# Altium schematic symbol library IR_Communication_Schematic_Lib.SchLib: 16 symbols
Pins are listed as number, name and electrical type; pins without a type are passive.

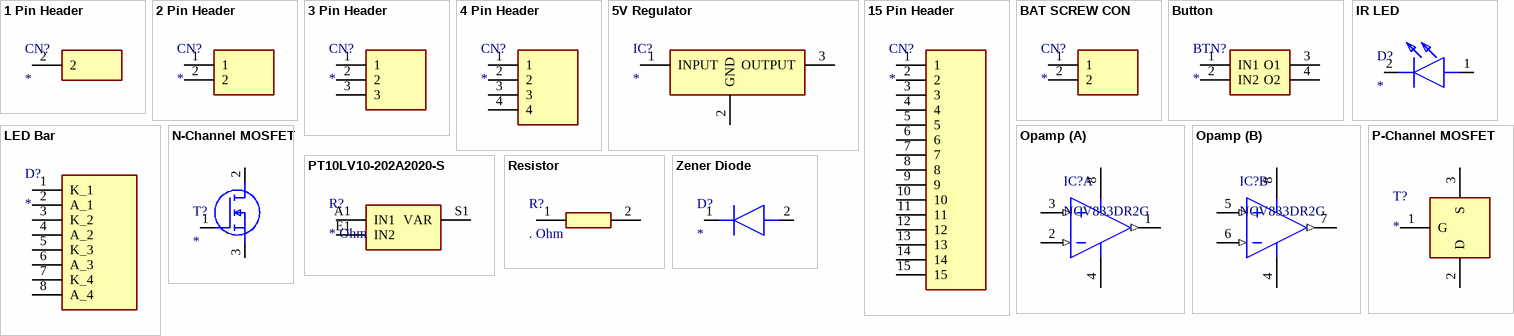
[diagram p0: symbols 1 Pin Header to Zener Diode]

## 1 Pin Header
designator CN?
Connector; Manufacturer_Name: TE Connectivity; Manufacturer_Part_Number: 5-146281-1; Datasheet Link: https://www.mouser.com/datasheet/2/418/NG_CD_146281_G1-1238634.pdf; Height: 8.81mm; Mouser Part Number: 571-5-146281-1; Mouser Price/Stock: https://www.mouser.co.uk/ProductDetail/TE-Connectivity/5-146281-1?qs=bwpFY26eRVdQbbdvDiYEig%3D%3D; Arrow Part Number: 5-146281-1; Arrow Price/Stock: https://www.arrow.com/en/products/5-146281-1/te-connectivity
footprint 1 PIN HEADER
pins: 2

## 2 Pin Header
designator CN?
Connector; Manufacturer_Name: TE Connectivity; Manufacturer_Part_Number: 5-146284-2; Datasheet Link: https://componentsearchengine.com/Datasheets/1/5-146284-2.pdf; Height: 8.21mm; Mouser Part Number: 571-5-146284-2; Mouser Price/Stock: https://www.mouser.co.uk/ProductDetail/TE-Connectivity/5-146284-2?qs=26tC0AmtfJgTF4M3cEQgiA%3D%3D; Arrow Part Number: 5-146284-2; Arrow Price/Stock: https://www.arrow.com/en/products/5-146284-2/te-connectivity
footprint 2 Pin Header
pins: 1, 2

## 3 Pin Header
designator CN?
TSW-103-07-G-S; Manufacturer_Name: SAMTEC; Datasheet Link: http://suddendocs.samtec.com/prints/tsw-xxx-xx-xxx-x-xx-xxx-mkt.pdf; Manufacturer_Part_Number: TSW-103-07-G-S; Mouser Part Number: 200-TSW10307GS; Mouser Price/Stock: https://www.mouser.co.uk/ProductDetail/Samtec/TSW-103-07-G-S?qs=iT52DjcXudtntd1jApTIAw%3D%3D; Arrow Part Number: TSW-103-07-G-S; Arrow Price/Stock: https://www.arrow.com/en/products/tsw-103-07-g-s/samtec?region=europe
footprint 3 Pin Header (TSW-103-XX-YY-S)
pins: 1, 2, 3

## 4 Pin Header
designator CN?
G800LW304032EU; Manufacturer_Name: Amphenol Communications Solutions; Datasheet Link: https://cdn.amphenol-cs.com/media/wysiwyg/files/drawing/g800lwxxxxxxeu.pdf; Height: 8.63mm; Manufacturer_Part_Number: G800LW304032EU; Mouser Part Number: 523-G800LW304032EU; Mouser Price/Stock: https://www.mouser.com/Search/Refine.aspx?Keyword=523-G800LW304032EU
footprint 4 PIN HEADER (HDRV4W64P0X254_1X4_1016X250X863P)
pins: 1, 2, 3, 4

## 5V Regulator
designator IC?
MC7805BDTG; Manufacturer_Name: onsemi; Datasheet Link: https://www.onsemi.com/pub/Collateral/MC7800-D.PDF; Height: 2.38mm; Manufacturer_Part_Number: MC7805BDTG; Mouser Part Number: 863-MC7805BDTG; Mouser Price/Stock: https://www.mouser.co.uk/ProductDetail/onsemi/MC7805BDTG?qs=%252B9%2Fcbd0IE0TYE8BQQ8My5g%3D%3D; Arrow Part Number: MC7805BDTG; Arrow Price/Stock: https://www.arrow.com/en/products/mc7805bdtg/on-semiconductor?region=europe
footprint 5V Regulator (MC7805BDTG)
pins: 1 INPUT, 2 GND, 3 OUTPUT

## 15 Pin Header
designator CN?
15 Pin Header Connector; Manufacturer_Name: SparkFun; Manufacturer_Part_Number: PRT-16279; Datasheet Link: https://cdn.sparkfun.com/assets/8/d/8/4/7/DS-16279-Arduino_Nano_Stackable_Header_Kit.pdf; Height: 8.65mm; Mouser Part Number: 474-PRT-16279; Mouser Price/Stock: https://www.mouser.co.uk/ProductDetail/SparkFun/PRT-16279?qs=vmHwEFxEFR8I6W1vfufYPg%3D%3D; Arrow Part Number: PRT-16279; Arrow Price/Stock: https://www.arrow.com/en/products/prt-16279/sparkfun-electronics?region=nac
footprint 15 Pin Header
pins: 1, 2, 3, 4, 5, 6, 7, 8, 9, 10, 11, 12, 13, 14, 15

## BAT SCREW CON
designator CN?
Connector; Manufacturer_Name: CUI Devices; Manufacturer_Part_Number: TB006-508-02BE; Datasheet Link: https://datasheet.datasheetarchive.com/originals/distributors/Datasheets_SAMA/b266c411a02422edb513b788238f8420.pdf; Height: 10.4mm; Mouser Part Number: 490-TB006-508-02BE; Mouser Price/Stock: https://www.mouser.co.uk/ProductDetail/CUI-Devices/TB006-508-02BE?qs=vLWxofP3U2wEdOVV%2FaT04w%3D%3D; Arrow Part Number: TB006-508-02BE; Arrow Price/Stock: https://www.arrow.com/en/products/tb006-508-02be/cui-devices?region=nac
footprint BAT SCREW CON
pins: 1, 2

## Button
designator BTN?
TS02-66-50-BK-100-SCR-D; Manufacturer_Name: CUI Devices; Description: Tactile Switches 6 x 6 mm; Datasheet Link: https://www.cuidevices.com/product/resource/ts02.pdf; Height: 5.2mm; Manufacturer_Part_Number: TS02-66-50-BK-100-SCR-D; Mouser Part Number: 179-TS026650BK100SCR; Mouser Price/Stock: https://www.mouser.co.uk/ProductDetail/CUI-Devices/TS02-66-50-BK-100-SCR-D?qs=A6eO%252BMLsxmQON%252BZSzpek2A%3D%3D; Arrow Part Number: TS02-66-50-BK-100-SCR-D; Arrow Price/Stock: https://www.arrow.com/en/products/ts02-66-50-bk-100-scr-d/cui-devices?region=nac
footprint PushButton (TS026650BK100SCRD)
pins: 1 IN1, 2 IN2, 3 O1, 4 O2

## IR LED
designator D?
LED EL-IR204_H16_L10; Manufacturer_Name: Everlight; Manufacturer_Part_Number: EL-IR204/H16/L10; Datasheet Link: https://www.mouser.de/ProductDetail/Everlight/EL-IR204-H16-L10?qs=vs%252BWWTB4QKYLfZ6uf%2Fu%252B0Q%3D%3D; Height: 7mm; Mouser Part Number: 638-IR204/H16/L10; Mouser Price/Stock: https://www.mouser.co.uk/ProductDetail/Everlight/EL-IR204-H16-L10?qs=vs%252BWWTB4QKYLfZ6uf%2Fu%252B0Q%3D%3D
footprint ELIR204H16L10
pins: 1 A, 2 K

## LED Bar
designator D?
SSB-LX2550SGW; Manufacturer_Name: Lumex; Description: LED Bars and Arrays 5x20mm 4 Chip Light Bar Super Grn 565nm; Datasheet Link: https://www.mouser.fr/datasheet/2/244/SSB-LX2550SGW-1777056.pdf; Height: 7.37mm; Manufacturer_Part_Number: SSB-LX2550SGW; Mouser Part Number: 696-SSB-LX2550SGW; Mouser Price/Stock: https://www.mouser.co.uk/ProductDetail/Lumex/SSB-LX2550SGW?qs=K%252Bxkc0srH7Bp%252B5yK7Wnd0w%3D%3D
footprint LED_Bar (SSBLX2550SGW)
pins: 1 K_1, 2 A_1, 3 K_2, 4 A_2, 5 K_3, 6 A_3, 7 K_4, 8 A_4

## N-Channel MOSFET
designator T?
MOSFET (N-Channel)IRF540NPBF; Manufacturer_Name: Infineon; Datasheet Link: https://www.infineon.com/dgdl/irf540n.pdf?fileId=5546d462533600a4015355e396cb199f; Height: 4.69mm; Manufacturer_Part_Number: IRF540NPBF; Mouser Part Number: 942-IRF540NPBF; Mouser Price/Stock: https://www.mouser.co.uk/ProductDetail/Infineon-Technologies/IRF540NPBF?qs=9%252BKlkBgLFf36us%252Bg5kwffA%3D%3D; Arrow Part Number: IRF540NPBF; Arrow Price/Stock: https://www.arrow.com/en/products/irf540npbf/infineon-technologies-ag?region=europe
footprint N-MOS (TO254P469X1042X1967-3P)
pins: 1 G, 2 D, 3 S

## Opamp
designator IC?, comment NCV833DR2G
Low Noise, Audio Dual Operational Amplifier, -40 to 85 degC, 8-Pin SOIC, Pb-Free, Tape and Reel; Manufacturer: On Semiconductor; SR Typ (V/uS): 7; GBW Typ (MHz): 15; RoHS: TRUE; ComponentLink2URL: http://www.onsemi.cn/pub_link/Collateral/LM833-D.PDF; ComponentLink1Description: Manufacturer URL; ComponentLink3Description: Package Specification; Mounting Technology: Surface Mount; Packing: Tape and Reel; ComponentLink3URL: http://www.onsemi.com/pub_link/Collateral/751-07.PDF; DatasheetVersion: Rev. 6; ComponentLink1URL: http://www.onsemi.com/; PackageDescription: 8-Pin Small Outline Integrated Circuit, Body 4.9 x 3.9 mm, Pitch 1.27 mm; PackageReference: SOIC-8-751-07; PartNumber: NCV833DR2G; PackageVersion: Rev. AK, 02/2011; ComponentLink2Description: Datasheet
footprint Footprint Opamp (ONSC-SOIC-8-751-07_V)
pins on every part: 4 VEE (power), 8 VCC (power)
part A pins: 1 OUT1 (out), 2 IN1- (in), 3 IN1+ (in)
part B pins: 5 IN2+ (in), 6 IN2- (in), 7 OUT2 (out)

## P-Channel MOSFET
designator T?
MOSFET (P-Channel)IRF9530NPBF; Manufacturer_Name: Infineon; Datasheet Link: https://www.infineon.com/dgdl/irf9530npbf.pdf?fileId=5546d462533600a401535611b9931dc1; Height: 4.69mm; Manufacturer_Part_Number: IRF9530NPBF; Mouser Part Number: 942-IRF9530NPBF; Mouser Price/Stock: https://www.mouser.co.uk/ProductDetail/Infineon-Technologies/IRF9530NPBF?qs=9%252BKlkBgLFf2oWmEcBf5aZQ%3D%3D; Arrow Part Number: IRF9530NPBF; Arrow Price/Stock: https://www.arrow.com/en/products/irf9530npbf/infineon-technologies-ag?region=europe
footprint TO254P469X1042X1967-3P
pins: 1 G, 2 D, 3 S

## PT10LV10-202A2020-S
designator R?, comment * Ohm
Variable Resistor; Manufacturer_Name: PIHER; Manufacturer_Part_Number: PT10LV10-202A2020-S; Datasheet Link: https://www.piher.net/pdf/12-PT10v03.pdf; Height: 6.2mm; Mouser Part Number: 531-PT10V-2K-S; Mouser Price/Stock: https://www.mouser.co.uk/ProductDetail/Amphenol-Piher/PT10LV10-202A2020-S?qs=pCZPOPZMYPhb8H8I5oW3PQ%3D%3D
footprint Variable resistor (PT10LV10202A2020S)
pins: A1 IN1, E1 IN2, S1 VAR

## Resistor
designator R?, comment . Ohm
Resistor; Manufacturer_Name: YAGEO; Manufacturer_Part_Number: RP0805BRD071KL; Datasheet Link: https://www.yageo.com/upload/media/product/products/datasheet/rchip/PYu-RP_51_RoHS_L_0.pdf; Height: 0.6mm; Mouser Part Number: 603-RP0805BRD071KL; Mouser Price/Stock: https://www.mouser.co.uk/ProductDetail/YAGEO/RP0805BRD071KL?qs=Y0Uzf4wQF3m8mAbG54g63Q%3D%3D
footprint 0805
pins: 1, 2

## Zener Diode
designator D?
VS-10BQ015-M3_5BT; Manufacturer_Name: Vishay; Manufacturer_Part_Number: VS-10BQ015-M3/5BT; Datasheet Link: https://componentsearchengine.com/Datasheets/2/VS-10BQ015-M3_5BT.pdf; Height: 2.44mm; Mouser Part Number: 78-VS-10BQ015-M35BT; Mouser Price/Stock: https://www.mouser.co.uk/ProductDetail/Vishay-Semiconductors/VS-10BQ015-M3-5BT?qs=asPD7ZL2j3VpzaHhlDLLKA%3D%3D; Arrow Part Number: VS-10BQ015-M3/5BT; Arrow Price/Stock: https://www.arrow.com/en/products/vs-10bq015-m35bt/vishay
footprint Zener Diode (DIOM5436X244N)
pins: 1 K, 2 A